# Altium integrated library TI Amplifiers and Linear Special Function Amplifier.IntLib: 708 symbols (part 35 of 47)
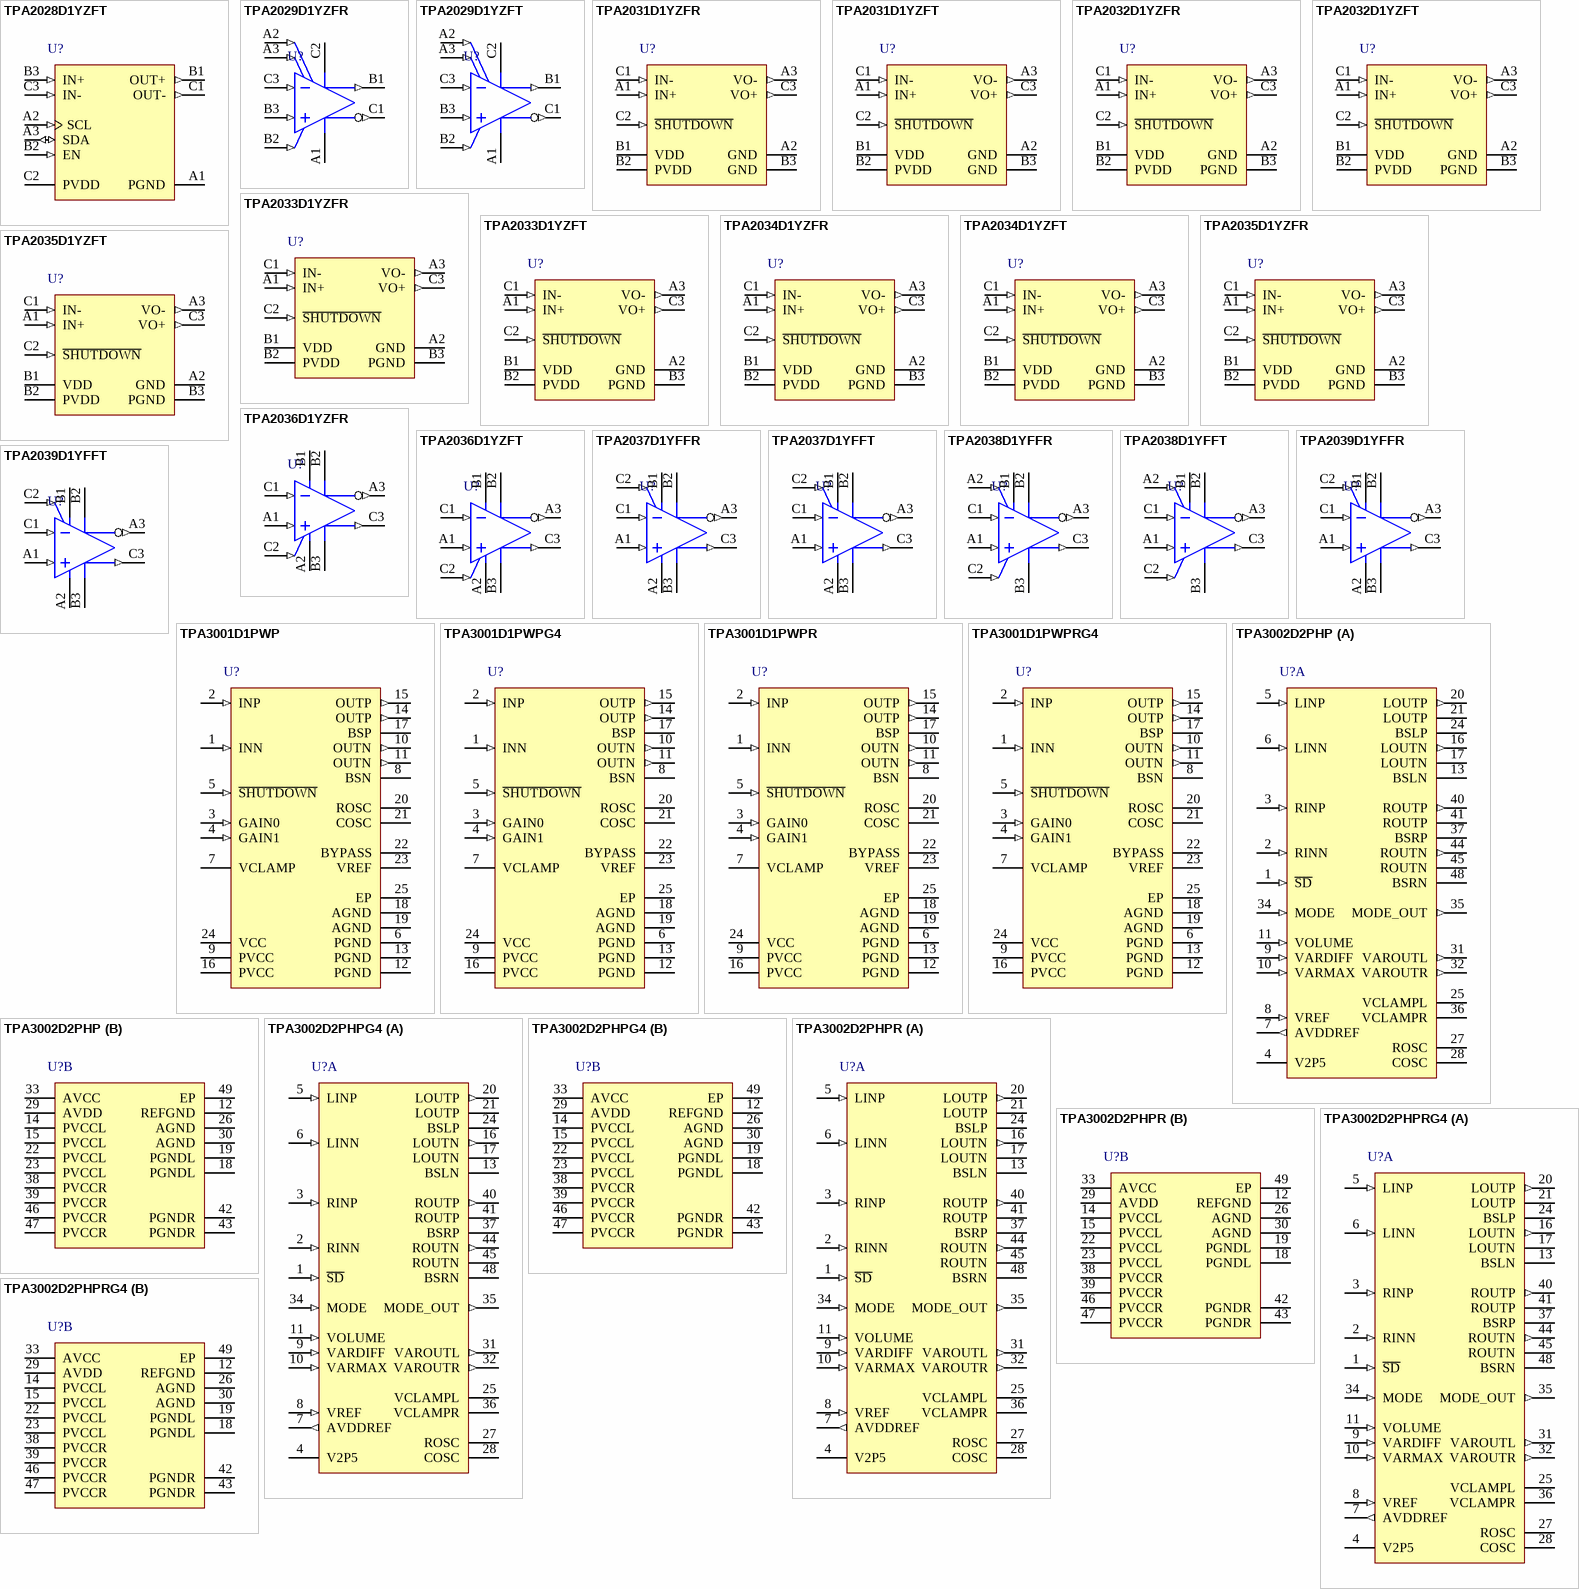
[diagram p73: symbols TPA2028D1YZFT to TPA3002D2PHPRG4]

## TPA3002D2PHPRG4
designator U?
9 W Stereo Class-D Audio Power Amplifier with Volume Control, -40 to 85 degC, 48-pin QFP (PHP48), Green (RoHS & no Sb/Br); Manufacturer: Texas Instruments; PartNumber: TPA3002D2PHPRG4; Analog Supply Max [V]: 14; Analog Supply Min [V]: 8.5; Input Type: Analog; Max. Number of Speaker Outputs: 2; SubFamily: Mid/High-Power Amplifier; DatasheetVersion: SLOS402C; PackageVersion: 4146927/B, 08/2003; PackageReference: PHP48-4385X4385TP; PackageDescription: 48-Pin PowerPAD(TM) Plastic Quad Flatpack, Body 7 x 7 mm, Pitch 0.5 mm; Supplier 1: Digi-Key; Supplier Part Number 1: TPA3002D2PHPRG4-ND; Supplier 2: Mouser; Supplier Part Number 2: 595-TPA3002D2PHPRG4; Eco-Plan: Green (RoHS & no Sb/Br); Power Stage Supply Min(V): 8.5; Mounting Technology: Surface Mount; Code_JEDEC: MS-026; ComponentLink1Description: Manufacturer URL; ComponentLink1URL: http://www.ti.com/; ComponentLink2Description: Datasheet; ComponentLink2URL: http://www.ti.com/general/docs/lit/getliterature.tsp?genericPartNumber=TPA3002D2&fileType=pdf; ComponentLink3Description: Package Specification; ComponentLink3URL: http://www.ti.com/litv/pdf/mpdi001b
footprint TI-PHP48-4385X4385TP_N (QFP, 48-Leads, Body 7x7mm, Pitch 0.5mm, Thermal Pad 4.9x4.9mm, IPC Medium Density)
footprint TI-PHP48-4385X4385TP_L (QFP, 48-Leads, Body 7x7mm, Pitch 0.5mm, Thermal Pad 4.9x4.9mm, IPC High Density)
footprint TI-PHP48-4385X4385TP_M (QFP, 48-Leads, Body 7x7mm, Pitch 0.5mm, Thermal Pad 4.9x4.9mm, IPC Low Density)
part A pins: 1 ~{SD} (in) "Shutdown signal for IC (low = shutdown, high = operational). TTL logic levels with compliance to VCC.", 2 RINN (in) "Negative differential audio input for right channel", 3 RINP (in) "Positive differential audio input for right channel", 4 V2P5 "2.5-V Reference for analog cells, as well as reference for unused audio input when using single-ended inputs.", 5 LINP (in) "Positive differential audio input for left channel", 6 LINN (in) "Negative differential audio input for left channel", 7 AVDDREF (out) "5-V Reference output-provided for connection to adjacent VREF terminal.", 8 VREF (in) "Analog reference for gain control section.", 9 VARDIFF (in) "DC voltage to set the difference in gain between the Class-D and VAROUT outputs. Connect to GND or AVDDREF if VAROUT outputs are unconnected.", 10 VARMAX (in) "DC voltage that sets the maximum gain for the VAROUT outputs. Connect to GND or AVDDREF if VAROUT outputs are unconnected.", 11 VOLUME (in) "DC voltage that sets the gain of the amplifier.", 13 BSLN "Bootstrap I/O for left channel, negative high-side FET", 16 LOUTN (out) "Class-D 1/2-H-bridge negative output for left channel", 17 LOUTN "Class-D 1/2-H-bridge negative output for left channel", 20 LOUTP (out) "Class-D 1/2-H-bridge positive output for left channel", 21 LOUTP "Class-D 1/2-H-bridge positive output for left channel", 24 BSLP "Bootstrap I/O for left channel, positive high-side FET", 25 VCLAMPL "Internally generated voltage supply for left channel bootstrap capacitors.", 27 ROSC "Current setting resistor for ramp generator. Nominally equal to 1/8*VCC", 28 COSC "I/O for charge/discharging currents onto capacitor for ramp generator triangle wave biased at V2P5", 31 VAROUTL (out) "Variable output for left channel audio. Line level output for driving external HP amplifier.", 32 VAROUTR (out) "Variable output for right channel audio. Line level output for driving external HP amplifier.", 34 MODE (in) "Input for MODE control. A logic high on this pin places the amplifier in the variable output mode and the Class-D outputs are disabled. A logic low on this pin places the amplifier in the Class-D mode and Class-D stereo (See Datasheet)", 35 MODE_OUT (out) "Output for control of the variable output amplifiers. When the MODE pin (34) is a logic high, the MODE_OUT pin is driven low. When the MODE pin (34) is a logic low, the MODE_OUT pin is driven high. This pin is intended for (See Datasheet)", 36 VCLAMPR "Internally generated voltage supply for right channel bootstrap capacitors.", 37 BSRP "Bootstrap I/O for right channel, positive high-side FET", 40 ROUTP (out) "Class-D 1/2-H-bridge positive output for right channel", 41 ROUTP "Class-D 1/2-H-bridge positive output for right channel", 44 ROUTN (out) "Class-D 1/2-H-bridge negative output for right channel", 45 ROUTN "Class-D 1/2-H-bridge negative output for right channel", 48 BSRN "Bootstrap I/O for right channel, negative high-side FET"
part B pins: 12 REFGND (power) "Ground for gain control circuitry. Connect to AGND. If using a DAC to control the volume, connect the DAC ground to this terminal.", 14 PVCCL (power) "Power supply for left channel H-bridge (tied to pins 22 and 23 internally), not connected to PVCCR or AVCC.", 15 PVCCL (power) "Power supply for left channel H-bridge (tied to pins 22 and 23 internally), not connected to PVCCR or AVCC.", 18 PGNDL (power) "Power ground for left channel H-bridge", 19 PGNDL (power) "Power ground for left channel H-bridge", 22 PVCCL (power) "Power supply for left channel H-bridge (tied to pins 14 and 15 internally), not connected to PVCCR or AVCC.", 23 PVCCL (power) "Power supply for left channel H-bridge (tied to pins 14 and 15 internally), not connected to PVCCR or AVCC.", 26 AGND (power) "Analog ground for digital/analog cells in core", 29 AVDD (power) "5-V Regulated output capable of 100-mA output", 30 AGND (power) "Analog ground for digital/analog cells in core", 33 AVCC (power) "High-voltage analog power supply (8.5 V to 14 V)", 38 PVCCR (power) "Power supply for right channel H-bridge (tied to pins 46 and 47 internally), not connected to PVCCR or AVCC.", 39 PVCCR (power) "Power supply for right channel H-bridge (tied to pins 46 and 47 internally), not connected to PVCCR or AVCC.", 42 PGNDR (power) "Power ground for right channel H-bridge", 43 PGNDR (power) "Power ground for right channel H-bridge", 46 PVCCR (power) "Power supply for right channel H-bridge (tied to pins 38 and 39 internally), not connected to PVCCL or AVCC.", 47 PVCCR (power) "Power supply for right channel H-bridge (tied to pins 38 and 39 internally), not connected to PVCCL or AVCC.", 49 EP (power) "Connect to AGND and PGND-should be center point for both grounds."

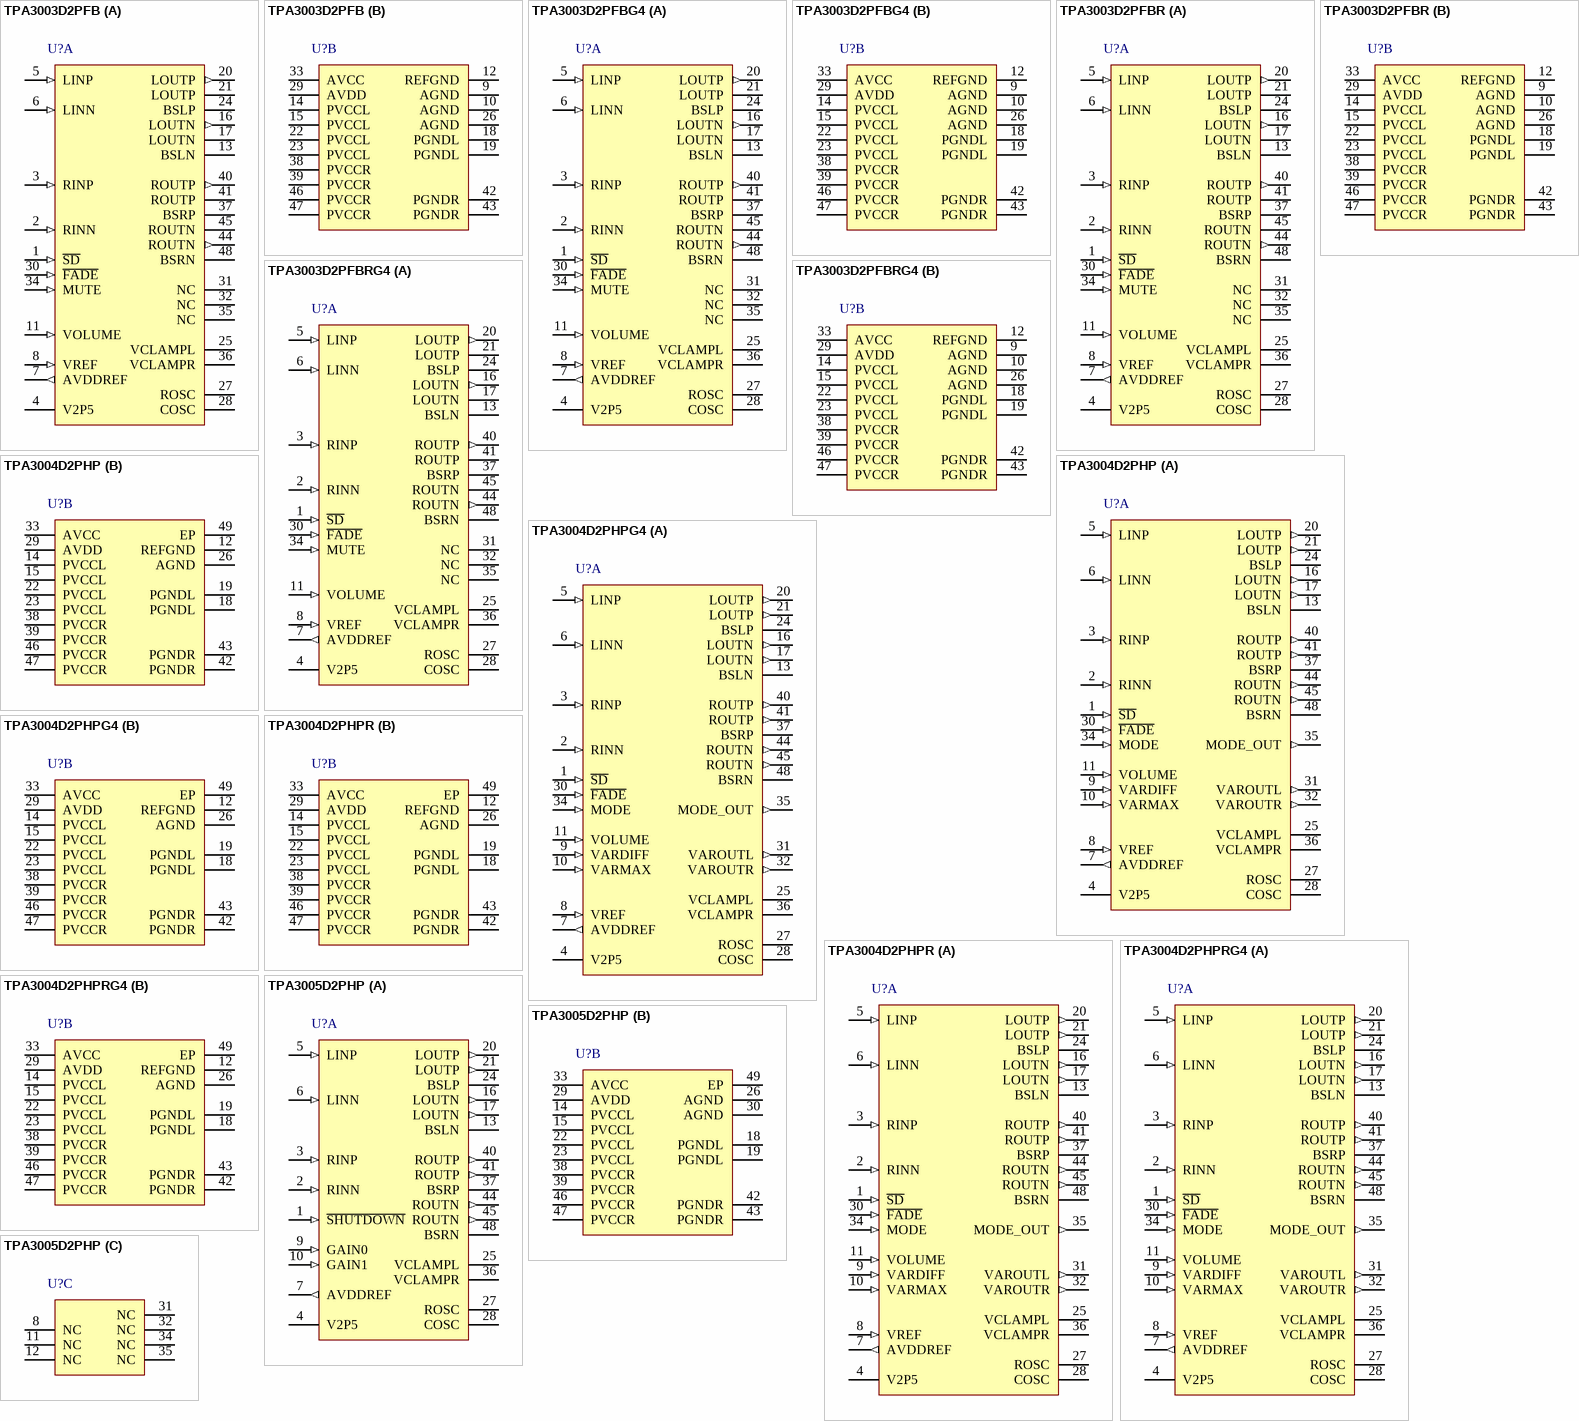
[diagram p30: symbols TPA3003D2PFB to TPA3005D2PHP]

## TPA3003D2PFB
designator U?
3-W Stereo Class-D Audio Power Amplifier with Volume Control, -40 to 85 degC, 48-pin QFP (PFB48), Green (RoHS & no Sb/Br); Manufacturer: Texas Instruments; PartNumber: TPA3003D2PFB; Output Power(W): 3; PSRR(dB): -80; SubFamily: Dynamic Speaker; Supply Max(Max)(Volt): 14; Supply Min(Min)(Volt): 8.5; DatasheetVersion: SLOS406A; PackageVersion: 4073176/B, 10/1996; PackageReference: PFB48; PackageDescription: 48-Pin Plastic Flat Pack, Body 7 x 7 mm, Pitch 0.5 mm; Supplier 1: Digi-Key; Supplier Part Number 1: 296-15037-ND; Supplier 2: Newark; Supplier Part Number 2: 61H5540; Supplier 3: Mouser; Supplier Part Number 3: 595-TPA3003D2PFB; Eco-Plan: Green (RoHS & no Sb/Br); Speaker Amp Type: Class-D; Speaker Channels: Stereo; Mounting Technology: Surface Mount; Code_JEDEC: MS-026; ComponentLink1Description: Manufacturer URL; ComponentLink1URL: http://www.ti.com/; ComponentLink2Description: Datasheet; ComponentLink2URL: http://www.ti.com/general/docs/lit/getliterature.tsp?genericPartNumber=TPA3003D2&fileType=pdf; ComponentLink3Description: Package Specification; ComponentLink3URL: http://www.ti.com/lit/ml/mtqf019a/mtqf019a.pdf
footprint TI-PFB48_N (QFP, 48-Leads, Body 7x7mm, Pitch 0.5mm, IPC Medium Density)
footprint TI-PFB48_L (QFP, 48-Leads, Body 7x7mm, Pitch 0.5mm, IPC High Density)
footprint TI-PFB48_M (QFP, 48-Leads, Body 7x7mm, Pitch 0.5mm, IPC Low Density)
part A pins: 1 ~{SD} (in) "Shutdown signal for IC (low = shutdown, high = operational). TTL logic levels with compliance to VCC.", 2 RINN (in) "Negative differential audio input for right channel", 3 RINP (in) "Positive differential audio input for right channel", 4 V2P5 "2.5-V Reference for analog cells, as well as reference for unused audio input when using single-ended inputs.", 5 LINP (in) "Positive differential audio input for left channel", 6 LINN (in) "Negative differential audio input for left channel", 7 AVDDREF (out) "5-V Reference output-provided for connection to adjacent VREF terminal.", 8 VREF (in) "Analog reference for gain control section.", 11 VOLUME (in) "DC voltage that sets the gain of the amplifier.", 13 BSLN "Bootstrap I/O for left channel, negative high-side FET", 16 LOUTN (out) "Class-D 1/2-H-bridge negative output for left channel", 17 LOUTN "Class-D 1/2-H-bridge negative output for left channel", 20 LOUTP (out) "Class-D 1/2-H-bridge positive output for left channel", 21 LOUTP "Class-D 1/2-H-bridge positive output for left channel", 24 BSLP "Bootstrap I/O for left channel, positive high-side FET", 25 VCLAMPL "Internally generated voltage supply for left channel bootstrap capacitors.", 27 ROSC "Current setting resistor for ramp generator. Nominally equal to 1/8*VCC", 28 COSC "I/O for charge/discharging currents onto capacitor for ramp generator triangle wave biased at V2P5", 30 ~{FADE} (in) "Input for controlling volume ramp rate when cycling S\D\ or during power-up. A logic low on this pin places the amplifier in fade mode. A logic high on this pin allows a quick transition to the desired volume setting.", 31 NC "Not internally connected", 32 NC "Not internally connected", 34 MUTE (in) "A logic high on this pin disables the outputs. A low on this pin enables the outputs.", 35 NC "Not internally connected", 36 VCLAMPR "Internally generated voltage supply for right channel bootstrap capacitors.", 37 BSRP "Bootstrap I/O for right channel, positive high-side FET", 40 ROUTP (out) "Class-D 1/2-H-bridge positive output for right channel", 41 ROUTP "Class-D 1/2-H-bridge positive output for right channel", 44 ROUTN (out) "Class-D 1/2-H-bridge negative output for right channel", 45 ROUTN "Class-D 1/2-H-bridge negative output for right channel", 48 BSRN "Bootstrap I/O for right channel, negative high-side FET"
part B pins: 9 AGND (power) "Analog ground for digital/analog cells in core", 10 AGND (power) "Analog ground for digital/analog cells in core", 12 REFGND (power) "Ground for gain control circuitry. Connect to AGND. If using a DAC to control the volume, connect the DAC ground to this terminal.", 14 PVCCL (power) "Power supply for left channel H-bridge (tied to pins 22 and 23 internally), not connected to PVCCR or AVCC.", 15 PVCCL (power) "Power supply for left channel H-bridge (tied to pins 22 and 23 internally), not connected to PVCCR or AVCC.", 18 PGNDL (power) "Power ground for left channel H-bridge", 19 PGNDL (power) "Power ground for left channel H-bridge", 22 PVCCL (power) "Power supply for left channel H-bridge (tied to pins 14 and 15 internally), not connected to PVCCR or AVCC.", 23 PVCCL (power) "Power supply for left channel H-bridge (tied to pins 14 and 15 internally), not connected to PVCCR or AVCC.", 26 AGND (power) "Analog ground for digital/analog cells in core", 29 AVDD (power) "5-V Regulated output", 33 AVCC (power) "High-voltage analog power supply (8.5 V to 14 V)", 38 PVCCR (power) "Power supply for right channel H-bridge (tied to pins 46 and 47 internally), not connected to PVCCR or AVCC.", 39 PVCCR (power) "Power supply for right channel H-bridge (tied to pins 46 and 47 internally), not connected to PVCCR or AVCC.", 42 PGNDR (power) "Power ground for right channel H-bridge", 43 PGNDR (power) "Power ground for right channel H-bridge", 46 PVCCR (power) "Power supply for right channel H-bridge (tied to pins 38 and 39 internally), not connected to PVCCL or AVCC.", 47 PVCCR (power) "Power supply for right channel H-bridge (tied to pins 38 and 39 internally), not connected to PVCCL or AVCC."

## TPA3003D2PFBG4
designator U?
3-W Stereo Class-D Audio Power Amplifier with Volume Control, -40 to 85 degC, 48-pin QFP (PFB48), Green (RoHS & no Sb/Br); Manufacturer: Texas Instruments; PartNumber: TPA3003D2PFBG4; Output Power(W): 3; PSRR(dB): -80; SubFamily: Dynamic Speaker; Supply Max(Max)(Volt): 14; Supply Min(Min)(Volt): 8.5; DatasheetVersion: SLOS406A; PackageVersion: 4073176/B, 10/1996; PackageReference: PFB48; PackageDescription: 48-Pin Plastic Flat Pack, Body 7 x 7 mm, Pitch 0.5 mm; Supplier 1: Digi-Key; Supplier Part Number 1: TPA3003D2PFBG4-ND; Supplier 2: Newark; Supplier Part Number 2: 58K6874; Supplier 3: Mouser; Supplier Part Number 3: 595-TPA3003D2PFBG4; Eco-Plan: Green (RoHS & no Sb/Br); Speaker Amp Type: Class-D; Speaker Channels: Stereo; Mounting Technology: Surface Mount; Code_JEDEC: MS-026; ComponentLink1Description: Manufacturer URL; ComponentLink1URL: http://www.ti.com/; ComponentLink2Description: Datasheet; ComponentLink2URL: http://www.ti.com/general/docs/lit/getliterature.tsp?genericPartNumber=TPA3003D2&fileType=pdf; ComponentLink3Description: Package Specification; ComponentLink3URL: http://www.ti.com/lit/ml/mtqf019a/mtqf019a.pdf
footprint TI-PFB48_N (QFP, 48-Leads, Body 7x7mm, Pitch 0.5mm, IPC Medium Density)
footprint TI-PFB48_L (QFP, 48-Leads, Body 7x7mm, Pitch 0.5mm, IPC High Density)
footprint TI-PFB48_M (QFP, 48-Leads, Body 7x7mm, Pitch 0.5mm, IPC Low Density)
part A pins: 1 ~{SD} (in) "Shutdown signal for IC (low = shutdown, high = operational). TTL logic levels with compliance to VCC.", 2 RINN (in) "Negative differential audio input for right channel", 3 RINP (in) "Positive differential audio input for right channel", 4 V2P5 "2.5-V Reference for analog cells, as well as reference for unused audio input when using single-ended inputs.", 5 LINP (in) "Positive differential audio input for left channel", 6 LINN (in) "Negative differential audio input for left channel", 7 AVDDREF (out) "5-V Reference output-provided for connection to adjacent VREF terminal.", 8 VREF (in) "Analog reference for gain control section.", 11 VOLUME (in) "DC voltage that sets the gain of the amplifier.", 13 BSLN "Bootstrap I/O for left channel, negative high-side FET", 16 LOUTN (out) "Class-D 1/2-H-bridge negative output for left channel", 17 LOUTN "Class-D 1/2-H-bridge negative output for left channel", 20 LOUTP (out) "Class-D 1/2-H-bridge positive output for left channel", 21 LOUTP "Class-D 1/2-H-bridge positive output for left channel", 24 BSLP "Bootstrap I/O for left channel, positive high-side FET", 25 VCLAMPL "Internally generated voltage supply for left channel bootstrap capacitors.", 27 ROSC "Current setting resistor for ramp generator. Nominally equal to 1/8*VCC", 28 COSC "I/O for charge/discharging currents onto capacitor for ramp generator triangle wave biased at V2P5", 30 ~{FADE} (in) "Input for controlling volume ramp rate when cycling S\D\ or during power-up. A logic low on this pin places the amplifier in fade mode. A logic high on this pin allows a quick transition to the desired volume setting.", 31 NC "Not internally connected", 32 NC "Not internally connected", 34 MUTE (in) "A logic high on this pin disables the outputs. A low on this pin enables the outputs.", 35 NC "Not internally connected", 36 VCLAMPR "Internally generated voltage supply for right channel bootstrap capacitors.", 37 BSRP "Bootstrap I/O for right channel, positive high-side FET", 40 ROUTP (out) "Class-D 1/2-H-bridge positive output for right channel", 41 ROUTP "Class-D 1/2-H-bridge positive output for right channel", 44 ROUTN (out) "Class-D 1/2-H-bridge negative output for right channel", 45 ROUTN "Class-D 1/2-H-bridge negative output for right channel", 48 BSRN "Bootstrap I/O for right channel, negative high-side FET"
part B pins: 9 AGND (power) "Analog ground for digital/analog cells in core", 10 AGND (power) "Analog ground for digital/analog cells in core", 12 REFGND (power) "Ground for gain control circuitry. Connect to AGND. If using a DAC to control the volume, connect the DAC ground to this terminal.", 14 PVCCL (power) "Power supply for left channel H-bridge (tied to pins 22 and 23 internally), not connected to PVCCR or AVCC.", 15 PVCCL (power) "Power supply for left channel H-bridge (tied to pins 22 and 23 internally), not connected to PVCCR or AVCC.", 18 PGNDL (power) "Power ground for left channel H-bridge", 19 PGNDL (power) "Power ground for left channel H-bridge", 22 PVCCL (power) "Power supply for left channel H-bridge (tied to pins 14 and 15 internally), not connected to PVCCR or AVCC.", 23 PVCCL (power) "Power supply for left channel H-bridge (tied to pins 14 and 15 internally), not connected to PVCCR or AVCC.", 26 AGND (power) "Analog ground for digital/analog cells in core", 29 AVDD (power) "5-V Regulated output", 33 AVCC (power) "High-voltage analog power supply (8.5 V to 14 V)", 38 PVCCR (power) "Power supply for right channel H-bridge (tied to pins 46 and 47 internally), not connected to PVCCR or AVCC.", 39 PVCCR (power) "Power supply for right channel H-bridge (tied to pins 46 and 47 internally), not connected to PVCCR or AVCC.", 42 PGNDR (power) "Power ground for right channel H-bridge", 43 PGNDR (power) "Power ground for right channel H-bridge", 46 PVCCR (power) "Power supply for right channel H-bridge (tied to pins 38 and 39 internally), not connected to PVCCL or AVCC.", 47 PVCCR (power) "Power supply for right channel H-bridge (tied to pins 38 and 39 internally), not connected to PVCCL or AVCC."

## TPA3003D2PFBR
designator U?
3-W Stereo Class-D Audio Power Amplifier with Volume Control, -40 to 85 degC, 48-pin QFP (PFB48), Green (RoHS & no Sb/Br); Manufacturer: Texas Instruments; PartNumber: TPA3003D2PFBR; Output Power(W): 3; PSRR(dB): -80; SubFamily: Dynamic Speaker; Supply Max(Max)(Volt): 14; Supply Min(Min)(Volt): 8.5; DatasheetVersion: SLOS406A; PackageVersion: 4073176/B, 10/1996; PackageReference: PFB48; PackageDescription: 48-Pin Plastic Flat Pack, Body 7 x 7 mm, Pitch 0.5 mm; Supplier 1: Digi-Key; Supplier Part Number 1: TPA3003D2PFBR-ND; Supplier 2: Mouser; Supplier Part Number 2: 595-TPA3003D2PFBR; Eco-Plan: Green (RoHS & no Sb/Br); Speaker Amp Type: Class-D; Speaker Channels: Stereo; Mounting Technology: Surface Mount; Code_JEDEC: MS-026; ComponentLink1Description: Manufacturer URL; ComponentLink1URL: http://www.ti.com/; ComponentLink2Description: Datasheet; ComponentLink2URL: http://www.ti.com/general/docs/lit/getliterature.tsp?genericPartNumber=TPA3003D2&fileType=pdf; ComponentLink3Description: Package Specification; ComponentLink3URL: http://www.ti.com/lit/ml/mtqf019a/mtqf019a.pdf
footprint TI-PFB48_N (QFP, 48-Leads, Body 7x7mm, Pitch 0.5mm, IPC Medium Density)
footprint TI-PFB48_L (QFP, 48-Leads, Body 7x7mm, Pitch 0.5mm, IPC High Density)
footprint TI-PFB48_M (QFP, 48-Leads, Body 7x7mm, Pitch 0.5mm, IPC Low Density)
part A pins: 1 ~{SD} (in) "Shutdown signal for IC (low = shutdown, high = operational). TTL logic levels with compliance to VCC.", 2 RINN (in) "Negative differential audio input for right channel", 3 RINP (in) "Positive differential audio input for right channel", 4 V2P5 "2.5-V Reference for analog cells, as well as reference for unused audio input when using single-ended inputs.", 5 LINP (in) "Positive differential audio input for left channel", 6 LINN (in) "Negative differential audio input for left channel", 7 AVDDREF (out) "5-V Reference output-provided for connection to adjacent VREF terminal.", 8 VREF (in) "Analog reference for gain control section.", 11 VOLUME (in) "DC voltage that sets the gain of the amplifier.", 13 BSLN "Bootstrap I/O for left channel, negative high-side FET", 16 LOUTN (out) "Class-D 1/2-H-bridge negative output for left channel", 17 LOUTN "Class-D 1/2-H-bridge negative output for left channel", 20 LOUTP (out) "Class-D 1/2-H-bridge positive output for left channel", 21 LOUTP "Class-D 1/2-H-bridge positive output for left channel", 24 BSLP "Bootstrap I/O for left channel, positive high-side FET", 25 VCLAMPL "Internally generated voltage supply for left channel bootstrap capacitors.", 27 ROSC "Current setting resistor for ramp generator. Nominally equal to 1/8*VCC", 28 COSC "I/O for charge/discharging currents onto capacitor for ramp generator triangle wave biased at V2P5", 30 ~{FADE} (in) "Input for controlling volume ramp rate when cycling S\D\ or during power-up. A logic low on this pin places the amplifier in fade mode. A logic high on this pin allows a quick transition to the desired volume setting.", 31 NC "Not internally connected", 32 NC "Not internally connected", 34 MUTE (in) "A logic high on this pin disables the outputs. A low on this pin enables the outputs.", 35 NC "Not internally connected", 36 VCLAMPR "Internally generated voltage supply for right channel bootstrap capacitors.", 37 BSRP "Bootstrap I/O for right channel, positive high-side FET", 40 ROUTP (out) "Class-D 1/2-H-bridge positive output for right channel", 41 ROUTP "Class-D 1/2-H-bridge positive output for right channel", 44 ROUTN (out) "Class-D 1/2-H-bridge negative output for right channel", 45 ROUTN "Class-D 1/2-H-bridge negative output for right channel", 48 BSRN "Bootstrap I/O for right channel, negative high-side FET"
part B pins: 9 AGND (power) "Analog ground for digital/analog cells in core", 10 AGND (power) "Analog ground for digital/analog cells in core", 12 REFGND (power) "Ground for gain control circuitry. Connect to AGND. If using a DAC to control the volume, connect the DAC ground to this terminal.", 14 PVCCL (power) "Power supply for left channel H-bridge (tied to pins 22 and 23 internally), not connected to PVCCR or AVCC.", 15 PVCCL (power) "Power supply for left channel H-bridge (tied to pins 22 and 23 internally), not connected to PVCCR or AVCC.", 18 PGNDL (power) "Power ground for left channel H-bridge", 19 PGNDL (power) "Power ground for left channel H-bridge", 22 PVCCL (power) "Power supply for left channel H-bridge (tied to pins 14 and 15 internally), not connected to PVCCR or AVCC.", 23 PVCCL (power) "Power supply for left channel H-bridge (tied to pins 14 and 15 internally), not connected to PVCCR or AVCC.", 26 AGND (power) "Analog ground for digital/analog cells in core", 29 AVDD (power) "5-V Regulated output", 33 AVCC (power) "High-voltage analog power supply (8.5 V to 14 V)", 38 PVCCR (power) "Power supply for right channel H-bridge (tied to pins 46 and 47 internally), not connected to PVCCR or AVCC.", 39 PVCCR (power) "Power supply for right channel H-bridge (tied to pins 46 and 47 internally), not connected to PVCCR or AVCC.", 42 PGNDR (power) "Power ground for right channel H-bridge", 43 PGNDR (power) "Power ground for right channel H-bridge", 46 PVCCR (power) "Power supply for right channel H-bridge (tied to pins 38 and 39 internally), not connected to PVCCL or AVCC.", 47 PVCCR (power) "Power supply for right channel H-bridge (tied to pins 38 and 39 internally), not connected to PVCCL or AVCC."

## TPA3003D2PFBRG4
designator U?
3-W Stereo Class-D Audio Power Amplifier with Volume Control, -40 to 85 degC, 48-pin QFP (PFB48), Green (RoHS & no Sb/Br); Manufacturer: Texas Instruments; PartNumber: TPA3003D2PFBRG4; Output Power(W): 3; PSRR(dB): -80; SubFamily: Dynamic Speaker; Supply Max(Max)(Volt): 14; Supply Min(Min)(Volt): 8.5; DatasheetVersion: SLOS406A; PackageVersion: 4073176/B, 10/1996; PackageReference: PFB48; PackageDescription: 48-Pin Plastic Flat Pack, Body 7 x 7 mm, Pitch 0.5 mm; Supplier 1: Digi-Key; Supplier Part Number 1: TPA3003D2PFBRG4-ND; Supplier 2: Newark; Supplier Part Number 2: 24K5781; Supplier 3: Mouser; Supplier Part Number 3: 595-TPA3003D2PFBRG4; Eco-Plan: Green (RoHS & no Sb/Br); Speaker Amp Type: Class-D; Speaker Channels: Stereo; Mounting Technology: Surface Mount; Code_JEDEC: MS-026; ComponentLink1Description: Manufacturer URL; ComponentLink1URL: http://www.ti.com/; ComponentLink2Description: Datasheet; ComponentLink2URL: http://www.ti.com/general/docs/lit/getliterature.tsp?genericPartNumber=TPA3003D2&fileType=pdf; ComponentLink3Description: Package Specification; ComponentLink3URL: http://www.ti.com/lit/ml/mtqf019a/mtqf019a.pdf
footprint TI-PFB48_N (QFP, 48-Leads, Body 7x7mm, Pitch 0.5mm, IPC Medium Density)
footprint TI-PFB48_L (QFP, 48-Leads, Body 7x7mm, Pitch 0.5mm, IPC High Density)
footprint TI-PFB48_M (QFP, 48-Leads, Body 7x7mm, Pitch 0.5mm, IPC Low Density)
part A pins: 1 ~{SD} (in) "Shutdown signal for IC (low = shutdown, high = operational). TTL logic levels with compliance to VCC.", 2 RINN (in) "Negative differential audio input for right channel", 3 RINP (in) "Positive differential audio input for right channel", 4 V2P5 "2.5-V Reference for analog cells, as well as reference for unused audio input when using single-ended inputs.", 5 LINP (in) "Positive differential audio input for left channel", 6 LINN (in) "Negative differential audio input for left channel", 7 AVDDREF (out) "5-V Reference output-provided for connection to adjacent VREF terminal.", 8 VREF (in) "Analog reference for gain control section.", 11 VOLUME (in) "DC voltage that sets the gain of the amplifier.", 13 BSLN "Bootstrap I/O for left channel, negative high-side FET", 16 LOUTN (out) "Class-D 1/2-H-bridge negative output for left channel", 17 LOUTN "Class-D 1/2-H-bridge negative output for left channel", 20 LOUTP (out) "Class-D 1/2-H-bridge positive output for left channel", 21 LOUTP "Class-D 1/2-H-bridge positive output for left channel", 24 BSLP "Bootstrap I/O for left channel, positive high-side FET", 25 VCLAMPL "Internally generated voltage supply for left channel bootstrap capacitors.", 27 ROSC "Current setting resistor for ramp generator. Nominally equal to 1/8*VCC", 28 COSC "I/O for charge/discharging currents onto capacitor for ramp generator triangle wave biased at V2P5", 30 ~{FADE} (in) "Input for controlling volume ramp rate when cycling S\D\ or during power-up. A logic low on this pin places the amplifier in fade mode. A logic high on this pin allows a quick transition to the desired volume setting.", 31 NC "Not internally connected", 32 NC "Not internally connected", 34 MUTE (in) "A logic high on this pin disables the outputs. A low on this pin enables the outputs.", 35 NC "Not internally connected", 36 VCLAMPR "Internally generated voltage supply for right channel bootstrap capacitors.", 37 BSRP "Bootstrap I/O for right channel, positive high-side FET", 40 ROUTP (out) "Class-D 1/2-H-bridge positive output for right channel", 41 ROUTP "Class-D 1/2-H-bridge positive output for right channel", 44 ROUTN (out) "Class-D 1/2-H-bridge negative output for right channel", 45 ROUTN "Class-D 1/2-H-bridge negative output for right channel", 48 BSRN "Bootstrap I/O for right channel, negative high-side FET"
part B pins: 9 AGND (power) "Analog ground for digital/analog cells in core", 10 AGND (power) "Analog ground for digital/analog cells in core", 12 REFGND (power) "Ground for gain control circuitry. Connect to AGND. If using a DAC to control the volume, connect the DAC ground to this terminal.", 14 PVCCL (power) "Power supply for left channel H-bridge (tied to pins 22 and 23 internally), not connected to PVCCR or AVCC.", 15 PVCCL (power) "Power supply for left channel H-bridge (tied to pins 22 and 23 internally), not connected to PVCCR or AVCC.", 18 PGNDL (power) "Power ground for left channel H-bridge", 19 PGNDL (power) "Power ground for left channel H-bridge", 22 PVCCL (power) "Power supply for left channel H-bridge (tied to pins 14 and 15 internally), not connected to PVCCR or AVCC.", 23 PVCCL (power) "Power supply for left channel H-bridge (tied to pins 14 and 15 internally), not connected to PVCCR or AVCC.", 26 AGND (power) "Analog ground for digital/analog cells in core", 29 AVDD (power) "5-V Regulated output", 33 AVCC (power) "High-voltage analog power supply (8.5 V to 14 V)", 38 PVCCR (power) "Power supply for right channel H-bridge (tied to pins 46 and 47 internally), not connected to PVCCR or AVCC.", 39 PVCCR (power) "Power supply for right channel H-bridge (tied to pins 46 and 47 internally), not connected to PVCCR or AVCC.", 42 PGNDR (power) "Power ground for right channel H-bridge", 43 PGNDR (power) "Power ground for right channel H-bridge", 46 PVCCR (power) "Power supply for right channel H-bridge (tied to pins 38 and 39 internally), not connected to PVCCL or AVCC.", 47 PVCCR (power) "Power supply for right channel H-bridge (tied to pins 38 and 39 internally), not connected to PVCCL or AVCC."

## TPA3004D2PHP
designator U?
12 W Stereo Class-D Audio Power Amplifier with Volume Control, -40 to 85 degC, 48-pin QFP (PHP48), Green (RoHS & no Sb/Br); Manufacturer: Texas Instruments; PartNumber: TPA3004D2PHP; Analog Supply Max [V]: 18; Analog Supply Min [V]: 8.5; Input Type: Analog; Max. Number of Speaker Outputs: 2; SubFamily: Mid/High-Power Amplifier; DatasheetVersion: SLOS407E; PackageVersion: 4146927/B, 08/2003; PackageReference: PHP48-4385X4385TP; PackageDescription: 48-Pin PowerPAD(TM) Plastic Quad Flatpack, Body 7 x 7 mm, Pitch 0.5 mm; Supplier 1: Digi-Key; Supplier Part Number 1: 296-32779-ND; Supplier 2: Newark; Supplier Part Number 2: 61H5542; Supplier 3: Mouser; Supplier Part Number 3: 595-TPA3004D2PHP; Eco-Plan: Green (RoHS & no Sb/Br); Power Stage Supply Min(V): 8.5; Mounting Technology: Surface Mount; Code_JEDEC: MS-026; ComponentLink1Description: Manufacturer URL; ComponentLink1URL: http://www.ti.com/; ComponentLink2Description: Datasheet; ComponentLink2URL: http://www.ti.com/general/docs/lit/getliterature.tsp?genericPartNumber=TPA3004D2&fileType=pdf; ComponentLink3Description: Package Specification; ComponentLink3URL: http://www.ti.com/litv/pdf/mpdi001b
footprint TI-PHP48-4385X4385TP_N (QFP, 48-Leads, Body 7x7mm, Pitch 0.5mm, Thermal Pad 4.9x4.9mm, IPC Medium Density)
footprint TI-PHP48-4385X4385TP_L (QFP, 48-Leads, Body 7x7mm, Pitch 0.5mm, Thermal Pad 4.9x4.9mm, IPC High Density)
footprint TI-PHP48-4385X4385TP_M (QFP, 48-Leads, Body 7x7mm, Pitch 0.5mm, Thermal Pad 4.9x4.9mm, IPC Low Density)
part A pins: 1 ~{SD} (in) "Shutdown signal for IC (low = shutdown, high = operational). TTL logic levels with compliance to VCC.", 2 RINN (in) "Negative differential audio input for right channel", 3 RINP (in) "Positive differential audio input for right channel", 4 V2P5 "2.5-V Reference for analog cells, as well as reference for unused audio input when using single-ended inputs.", 5 LINP (in) "Positive differential audio input for left channel", 6 LINN (in) "Negative differential audio input for left channel", 7 AVDDREF (out) "5-V Reference output-provided for connection to adjacent VREF terminal.", 8 VREF (in) "Analog reference for gain control section.", 9 VARDIFF (in) "DC voltage to set the difference in gain between the Class-D and VAROUT outputs. Connect to GND or AVDDREF if VAROUT outputs are unconnected.", 10 VARMAX (in) "DC voltage that sets the maximum gain for the VAROUT outputs. Connect to GND or AVDDREF if VAROUT outputs are unconnected.", 11 VOLUME (in) "DC voltage that sets the gain of the amplifier.", 13 BSLN "Bootstrap I/O for left channel, negative high-side FET", 16 LOUTN (out) "Class-D 1/2-H-bridge negative output for left channel", 17 LOUTN (out) "Class-D 1/2-H-bridge negative output for left channel", 20 LOUTP (out) "Class-D 1/2-H-bridge negative output for left channel", 21 LOUTP (out) "Class-D 1/2-H-bridge negative output for left channel", 24 BSLP "Bootstrap I/O for left channel, positive high-side FET", 25 VCLAMPL "Internally generated voltage supply for left channel bootstrap capacitors.", 27 ROSC "Current setting resistor for ramp generator. Nominally equal to 1/8*VCC", 28 COSC "I/O for charge/discharging currents onto capacitor for ramp generator triangle wave biased at V2P5", 30 ~{FADE} (in) "Input for controlling volume ramp rate. A logic low on this pin places the amplifier in fade mode. A logic high on this pin allows a quick transition to the desired volume setting when cycling S\D\ or during power-up.", 31 VAROUTL (out) "Variable output for left channel audio. Line level output for driving external HP amplifier.", 32 VAROUTR (out) "Variable output for right channel audio. Line level output for driving external HP amplifier.", 34 MODE (in) "Input for MODE control. A logic high on this pin places the amplifier in the variable output mode and the Class-D outputs are disabled. A logic low on this pin places the amplifier in the Class-D mode and Class-D stereo (See Datasheet)", 35 MODE_OUT (out) "Output for control of the variable output amplifiers. When the MODE pin (34) is a logic high, the MODE_OUT pin is driven low. When the MODE pin (34) is a logic low, the MODE_OUT pin is driven high. This pin is intended for (See Datasheet)", 36 VCLAMPR "Internally generated voltage supply for right channel bootstrap capacitors.", 37 BSRP "Bootstrap I/O for right channel, positive high-side FET", 40 ROUTP (out) "Class-D 1/2-H-bridge positive output for right channel", 41 ROUTP (out) "Class-D 1/2-H-bridge positive output for right channel", 44 ROUTN (out) "Class-D 1/2-H-bridge negative output for right channel", 45 ROUTN (out) "Class-D 1/2-H-bridge negative output for right channel", 48 BSRN "Bootstrap I/O for right channel, negative high-side FET"
part B pins: 12 REFGND (power) "Ground for gain control circuitry. Connect to AGND. If using a DAC to control the volume, connect the DAC ground to this terminal.", 14 PVCCL (power) "Power supply for left channel H-bridge (tied to pins 22 and 23 internally), not connected to PVCCR or AVCC.", 15 PVCCL (power) "Power supply for left channel H-bridge (tied to pins 22 and 23 internally), not connected to PVCCR or AVCC.", 18 PGNDL (power) "Power ground for left channel H-bridge", 19 PGNDL (power) "Power ground for left channel H-bridge", 22 PVCCL (power) "Power supply for left channel H-bridge (tied to pins 14 and 15 internally), not connected to PVCCR or AVCC.", 23 PVCCL (power) "Power supply for left channel H-bridge (tied to pins 14 and 15 internally), not connected to PVCCR or AVCC.", 26 AGND (power) "Analog ground for digital/analog cells in core", 29 AVDD (power) "5-V Regulated output capable of 100-mA output", 33 AVCC (power) "High-voltage analog power supply (8.5 V to 18 V)", 38 PVCCR (power) "Power supply for left channel H-bridge (tied to pins 14 and 15 internally), not connected to PVCCR or AVCC.", 39 PVCCR (power) "Power supply for left channel H-bridge (tied to pins 14 and 15 internally), not connected to PVCCR or AVCC.", 42 PGNDR (power) "Power ground for right channel H-bridge", 43 PGNDR (power) "Power ground for right channel H-bridge", 46 PVCCR (power) "Power supply for right channel H-bridge (tied to pins 38 and 39 internally), not connected to PVCCL or AVCC.", 47 PVCCR (power) "Power supply for right channel H-bridge (tied to pins 38 and 39 internally), not connected to PVCCL or AVCC.", 49 EP (power) "Connect to AGND and PGND-should be center point for both grounds."

## TPA3004D2PHPG4
designator U?
12 W Stereo Class-D Audio Power Amplifier with Volume Control, -40 to 85 degC, 48-pin QFP (PHP48), Green (RoHS & no Sb/Br); Manufacturer: Texas Instruments; PartNumber: TPA3004D2PHPG4; Analog Supply Max [V]: 18; Analog Supply Min [V]: 8.5; Input Type: Analog; Max. Number of Speaker Outputs: 2; SubFamily: Mid/High-Power Amplifier; DatasheetVersion: SLOS407E; PackageVersion: 4146927/B, 08/2003; PackageReference: PHP48-4385X4385TP; PackageDescription: 48-Pin PowerPAD(TM) Plastic Quad Flatpack, Body 7 x 7 mm, Pitch 0.5 mm; Supplier 1: Digi-Key; Supplier Part Number 1: TPA3004D2PHPG4-ND; Supplier 2: Mouser; Supplier Part Number 2: 595-TPA3004D2PHPG4; Eco-Plan: Green (RoHS & no Sb/Br); Power Stage Supply Min(V): 8.5; Mounting Technology: Surface Mount; Code_JEDEC: MS-026; ComponentLink1Description: Manufacturer URL; ComponentLink1URL: http://www.ti.com/; ComponentLink2Description: Datasheet; ComponentLink2URL: http://www.ti.com/general/docs/lit/getliterature.tsp?genericPartNumber=TPA3004D2&fileType=pdf; ComponentLink3Description: Package Specification; ComponentLink3URL: http://www.ti.com/litv/pdf/mpdi001b
footprint TI-PHP48-4385X4385TP_N (QFP, 48-Leads, Body 7x7mm, Pitch 0.5mm, Thermal Pad 4.9x4.9mm, IPC Medium Density)
footprint TI-PHP48-4385X4385TP_L (QFP, 48-Leads, Body 7x7mm, Pitch 0.5mm, Thermal Pad 4.9x4.9mm, IPC High Density)
footprint TI-PHP48-4385X4385TP_M (QFP, 48-Leads, Body 7x7mm, Pitch 0.5mm, Thermal Pad 4.9x4.9mm, IPC Low Density)
part A pins: 1 ~{SD} (in) "Shutdown signal for IC (low = shutdown, high = operational). TTL logic levels with compliance to VCC.", 2 RINN (in) "Negative differential audio input for right channel", 3 RINP (in) "Positive differential audio input for right channel", 4 V2P5 "2.5-V Reference for analog cells, as well as reference for unused audio input when using single-ended inputs.", 5 LINP (in) "Positive differential audio input for left channel", 6 LINN (in) "Negative differential audio input for left channel", 7 AVDDREF (out) "5-V Reference output-provided for connection to adjacent VREF terminal.", 8 VREF (in) "Analog reference for gain control section.", 9 VARDIFF (in) "DC voltage to set the difference in gain between the Class-D and VAROUT outputs. Connect to GND or AVDDREF if VAROUT outputs are unconnected.", 10 VARMAX (in) "DC voltage that sets the maximum gain for the VAROUT outputs. Connect to GND or AVDDREF if VAROUT outputs are unconnected.", 11 VOLUME (in) "DC voltage that sets the gain of the amplifier.", 13 BSLN "Bootstrap I/O for left channel, negative high-side FET", 16 LOUTN (out) "Class-D 1/2-H-bridge negative output for left channel", 17 LOUTN (out) "Class-D 1/2-H-bridge negative output for left channel", 20 LOUTP (out) "Class-D 1/2-H-bridge negative output for left channel", 21 LOUTP (out) "Class-D 1/2-H-bridge negative output for left channel", 24 BSLP "Bootstrap I/O for left channel, positive high-side FET", 25 VCLAMPL "Internally generated voltage supply for left channel bootstrap capacitors.", 27 ROSC "Current setting resistor for ramp generator. Nominally equal to 1/8*VCC", 28 COSC "I/O for charge/discharging currents onto capacitor for ramp generator triangle wave biased at V2P5", 30 ~{FADE} (in) "Input for controlling volume ramp rate. A logic low on this pin places the amplifier in fade mode. A logic high on this pin allows a quick transition to the desired volume setting when cycling S\D\ or during power-up.", 31 VAROUTL (out) "Variable output for left channel audio. Line level output for driving external HP amplifier.", 32 VAROUTR (out) "Variable output for right channel audio. Line level output for driving external HP amplifier.", 34 MODE (in) "Input for MODE control. A logic high on this pin places the amplifier in the variable output mode and the Class-D outputs are disabled. A logic low on this pin places the amplifier in the Class-D mode and Class-D stereo (See Datasheet)", 35 MODE_OUT (out) "Output for control of the variable output amplifiers. When the MODE pin (34) is a logic high, the MODE_OUT pin is driven low. When the MODE pin (34) is a logic low, the MODE_OUT pin is driven high. This pin is intended for (See Datasheet)", 36 VCLAMPR "Internally generated voltage supply for right channel bootstrap capacitors.", 37 BSRP "Bootstrap I/O for right channel, positive high-side FET", 40 ROUTP (out) "Class-D 1/2-H-bridge positive output for right channel", 41 ROUTP (out) "Class-D 1/2-H-bridge positive output for right channel", 44 ROUTN (out) "Class-D 1/2-H-bridge negative output for right channel", 45 ROUTN (out) "Class-D 1/2-H-bridge negative output for right channel", 48 BSRN "Bootstrap I/O for right channel, negative high-side FET"
part B pins: 12 REFGND (power) "Ground for gain control circuitry. Connect to AGND. If using a DAC to control the volume, connect the DAC ground to this terminal.", 14 PVCCL (power) "Power supply for left channel H-bridge (tied to pins 22 and 23 internally), not connected to PVCCR or AVCC.", 15 PVCCL (power) "Power supply for left channel H-bridge (tied to pins 22 and 23 internally), not connected to PVCCR or AVCC.", 18 PGNDL (power) "Power ground for left channel H-bridge", 19 PGNDL (power) "Power ground for left channel H-bridge", 22 PVCCL (power) "Power supply for left channel H-bridge (tied to pins 14 and 15 internally), not connected to PVCCR or AVCC.", 23 PVCCL (power) "Power supply for left channel H-bridge (tied to pins 14 and 15 internally), not connected to PVCCR or AVCC.", 26 AGND (power) "Analog ground for digital/analog cells in core", 29 AVDD (power) "5-V Regulated output capable of 100-mA output", 33 AVCC (power) "High-voltage analog power supply (8.5 V to 18 V)", 38 PVCCR (power) "Power supply for left channel H-bridge (tied to pins 14 and 15 internally), not connected to PVCCR or AVCC.", 39 PVCCR (power) "Power supply for left channel H-bridge (tied to pins 14 and 15 internally), not connected to PVCCR or AVCC.", 42 PGNDR (power) "Power ground for right channel H-bridge", 43 PGNDR (power) "Power ground for right channel H-bridge", 46 PVCCR (power) "Power supply for right channel H-bridge (tied to pins 38 and 39 internally), not connected to PVCCL or AVCC.", 47 PVCCR (power) "Power supply for right channel H-bridge (tied to pins 38 and 39 internally), not connected to PVCCL or AVCC.", 49 EP (power) "Connect to AGND and PGND-should be center point for both grounds."

## TPA3004D2PHPR
designator U?
12 W Stereo Class-D Audio Power Amplifier with Volume Control, -40 to 85 degC, 48-pin QFP (PHP48), Green (RoHS & no Sb/Br); Manufacturer: Texas Instruments; PartNumber: TPA3004D2PHPR; Analog Supply Max [V]: 18; Analog Supply Min [V]: 8.5; Input Type: Analog; Max. Number of Speaker Outputs: 2; SubFamily: Mid/High-Power Amplifier; DatasheetVersion: SLOS407E; PackageVersion: 4146927/B, 08/2003; PackageReference: PHP48-4385X4385TP; PackageDescription: 48-Pin PowerPAD(TM) Plastic Quad Flatpack, Body 7 x 7 mm, Pitch 0.5 mm; Supplier 1: Digi-Key; Supplier Part Number 1: 296-15038-2-ND; Supplier 2: Digi-Key; Supplier Part Number 2: 296-15038-1-ND; Supplier 3: Digi-Key; Supplier Part Number 3: 296-15038-6-ND; Supplier 4: Newark; Supplier Part Number 4: 61H5543; Supplier 5: Mouser; Supplier Part Number 5: 595-TPA3004D2PHPR; Eco-Plan: Green (RoHS & no Sb/Br); Power Stage Supply Min(V): 8.5; Mounting Technology: Surface Mount; Code_JEDEC: MS-026; ComponentLink1Description: Manufacturer URL; ComponentLink1URL: http://www.ti.com/; ComponentLink2Description: Datasheet; ComponentLink2URL: http://www.ti.com/general/docs/lit/getliterature.tsp?genericPartNumber=TPA3004D2&fileType=pdf; ComponentLink3Description: Package Specification; ComponentLink3URL: http://www.ti.com/litv/pdf/mpdi001b
footprint TI-PHP48-4385X4385TP_N (QFP, 48-Leads, Body 7x7mm, Pitch 0.5mm, Thermal Pad 4.9x4.9mm, IPC Medium Density)
footprint TI-PHP48-4385X4385TP_L (QFP, 48-Leads, Body 7x7mm, Pitch 0.5mm, Thermal Pad 4.9x4.9mm, IPC High Density)
footprint TI-PHP48-4385X4385TP_M (QFP, 48-Leads, Body 7x7mm, Pitch 0.5mm, Thermal Pad 4.9x4.9mm, IPC Low Density)
part A pins: 1 ~{SD} (in) "Shutdown signal for IC (low = shutdown, high = operational). TTL logic levels with compliance to VCC.", 2 RINN (in) "Negative differential audio input for right channel", 3 RINP (in) "Positive differential audio input for right channel", 4 V2P5 "2.5-V Reference for analog cells, as well as reference for unused audio input when using single-ended inputs.", 5 LINP (in) "Positive differential audio input for left channel", 6 LINN (in) "Negative differential audio input for left channel", 7 AVDDREF (out) "5-V Reference output-provided for connection to adjacent VREF terminal.", 8 VREF (in) "Analog reference for gain control section.", 9 VARDIFF (in) "DC voltage to set the difference in gain between the Class-D and VAROUT outputs. Connect to GND or AVDDREF if VAROUT outputs are unconnected.", 10 VARMAX (in) "DC voltage that sets the maximum gain for the VAROUT outputs. Connect to GND or AVDDREF if VAROUT outputs are unconnected.", 11 VOLUME (in) "DC voltage that sets the gain of the amplifier.", 13 BSLN "Bootstrap I/O for left channel, negative high-side FET", 16 LOUTN (out) "Class-D 1/2-H-bridge negative output for left channel", 17 LOUTN (out) "Class-D 1/2-H-bridge negative output for left channel", 20 LOUTP (out) "Class-D 1/2-H-bridge negative output for left channel", 21 LOUTP (out) "Class-D 1/2-H-bridge negative output for left channel", 24 BSLP "Bootstrap I/O for left channel, positive high-side FET", 25 VCLAMPL "Internally generated voltage supply for left channel bootstrap capacitors.", 27 ROSC "Current setting resistor for ramp generator. Nominally equal to 1/8*VCC", 28 COSC "I/O for charge/discharging currents onto capacitor for ramp generator triangle wave biased at V2P5", 30 ~{FADE} (in) "Input for controlling volume ramp rate. A logic low on this pin places the amplifier in fade mode. A logic high on this pin allows a quick transition to the desired volume setting when cycling S\D\ or during power-up.", 31 VAROUTL (out) "Variable output for left channel audio. Line level output for driving external HP amplifier.", 32 VAROUTR (out) "Variable output for right channel audio. Line level output for driving external HP amplifier.", 34 MODE (in) "Input for MODE control. A logic high on this pin places the amplifier in the variable output mode and the Class-D outputs are disabled. A logic low on this pin places the amplifier in the Class-D mode and Class-D stereo (See Datasheet)", 35 MODE_OUT (out) "Output for control of the variable output amplifiers. When the MODE pin (34) is a logic high, the MODE_OUT pin is driven low. When the MODE pin (34) is a logic low, the MODE_OUT pin is driven high. This pin is intended for (See Datasheet)", 36 VCLAMPR "Internally generated voltage supply for right channel bootstrap capacitors.", 37 BSRP "Bootstrap I/O for right channel, positive high-side FET", 40 ROUTP (out) "Class-D 1/2-H-bridge positive output for right channel", 41 ROUTP (out) "Class-D 1/2-H-bridge positive output for right channel", 44 ROUTN (out) "Class-D 1/2-H-bridge negative output for right channel", 45 ROUTN (out) "Class-D 1/2-H-bridge negative output for right channel", 48 BSRN "Bootstrap I/O for right channel, negative high-side FET"
part B pins: 12 REFGND (power) "Ground for gain control circuitry. Connect to AGND. If using a DAC to control the volume, connect the DAC ground to this terminal.", 14 PVCCL (power) "Power supply for left channel H-bridge (tied to pins 22 and 23 internally), not connected to PVCCR or AVCC.", 15 PVCCL (power) "Power supply for left channel H-bridge (tied to pins 22 and 23 internally), not connected to PVCCR or AVCC.", 18 PGNDL (power) "Power ground for left channel H-bridge", 19 PGNDL (power) "Power ground for left channel H-bridge", 22 PVCCL (power) "Power supply for left channel H-bridge (tied to pins 14 and 15 internally), not connected to PVCCR or AVCC.", 23 PVCCL (power) "Power supply for left channel H-bridge (tied to pins 14 and 15 internally), not connected to PVCCR or AVCC.", 26 AGND (power) "Analog ground for digital/analog cells in core", 29 AVDD (power) "5-V Regulated output capable of 100-mA output", 33 AVCC (power) "High-voltage analog power supply (8.5 V to 18 V)", 38 PVCCR (power) "Power supply for left channel H-bridge (tied to pins 14 and 15 internally), not connected to PVCCR or AVCC.", 39 PVCCR (power) "Power supply for left channel H-bridge (tied to pins 14 and 15 internally), not connected to PVCCR or AVCC.", 42 PGNDR (power) "Power ground for right channel H-bridge", 43 PGNDR (power) "Power ground for right channel H-bridge", 46 PVCCR (power) "Power supply for right channel H-bridge (tied to pins 38 and 39 internally), not connected to PVCCL or AVCC.", 47 PVCCR (power) "Power supply for right channel H-bridge (tied to pins 38 and 39 internally), not connected to PVCCL or AVCC.", 49 EP (power) "Connect to AGND and PGND-should be center point for both grounds."